# Altium footprint library PcbLib1.PcbLib: 7 footprints
Each footprint in its own frame and in the unit in brackets; x right, y up, seen from the top. Pads: shape width x height; smd on the part's side, far side on the other; paste and mask are expansions set on the pad; w line width, h text height; cw(c..) or ccw(c..) is an arc to the next point about the centre after c.
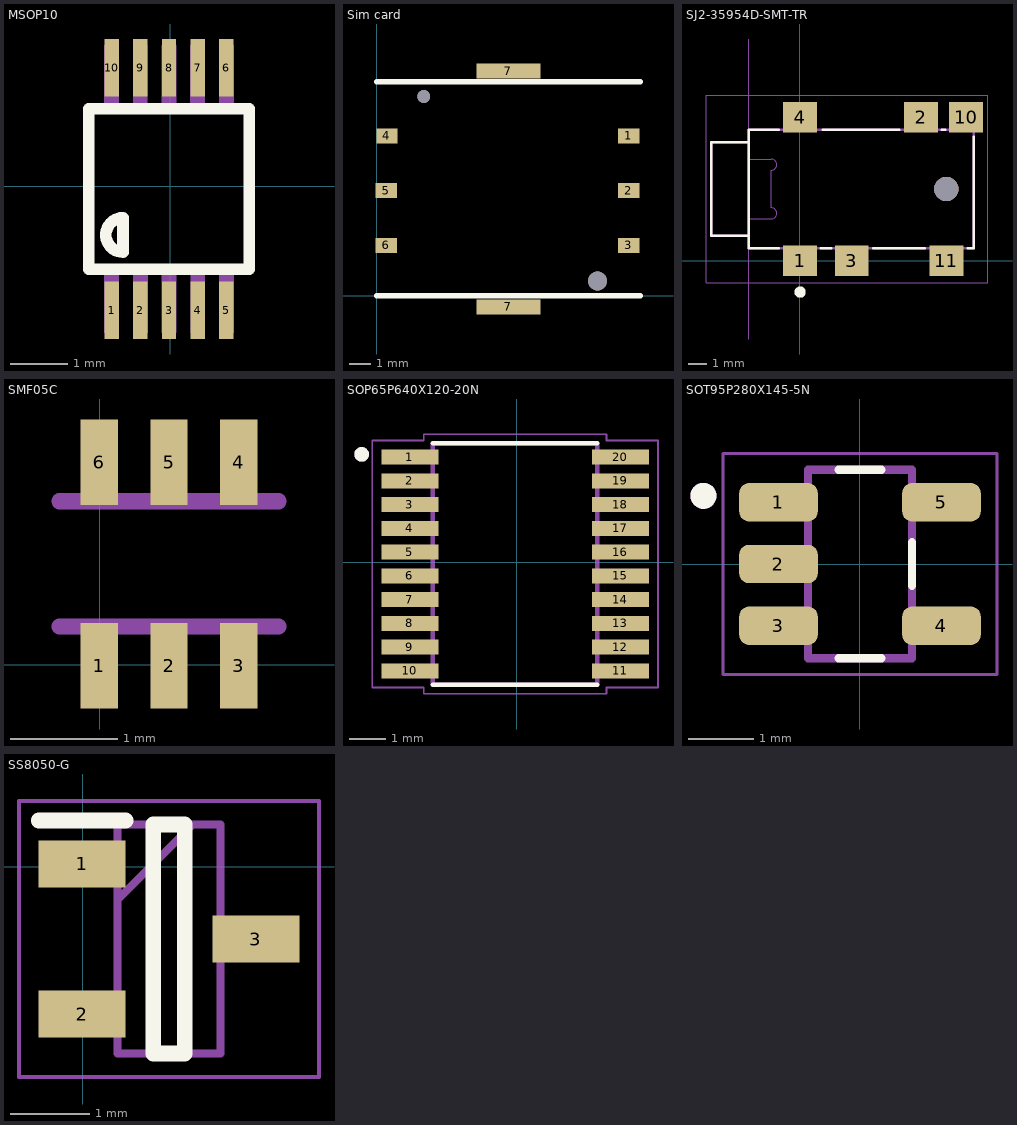
[diagram p0: the footprints below, top view; thin cyan lines are the x and y axes]

## MSOP10 [mm]
pads (10):
  rect 0.25x1 smd: 1(-1.025,-2.164) 2(-0.525,-2.164) 3(-0.025,-2.164) 4(0.475,-2.164) 5(0.975,-2.164) 6(0.975,2.062) 7(0.475,2.062) 8(-0.025,2.062) 9(-0.525,2.062) 10(-1.025,2.062)
Top Overlay:
  lines w0.203: -1.425,-1.451 1.375,-1.451 1.375,1.349 -1.425,1.349 -1.425,-1.451 ; -0.825,-1.151 cw(c-0.825,-0.851) -0.825,-0.551 -0.825,-1.151
Mechanical 13:
  region: -0.9,-2.551 -1.15,-2.551 -1.15,-1.551 -0.9,-1.551
  region: -0.4,-2.551 -0.65,-2.551 -0.65,-1.551 -0.4,-1.551
  region: 0.1,-2.551 -0.15,-2.551 -0.15,-1.551 0.1,-1.551
  region: 0.6,-2.551 0.35,-2.551 0.35,-1.551 0.6,-1.551
  region: 1.1,-2.551 0.85,-2.551 0.85,-1.551 1.1,-1.551
  region: 1.099,1.449 0.849,1.449 0.849,2.449 1.099,2.449
  region: 0.599,1.449 0.349,1.449 0.349,2.449 0.599,2.449
  region: 0.099,1.449 -0.151,1.449 -0.151,2.449 0.099,2.449
  region: -0.401,1.449 -0.651,1.449 -0.651,2.449 -0.401,2.449
  region: -0.901,1.449 -1.151,1.449 -1.151,2.449 -0.901,2.449
3D body "step_temp.STEP": height 1.11, standoff 0.01, extent -1.525,-2.501 1.475,2.399

## Sim card [mm]
pads (8):
  rect 1x0.7 smd: 1(11.757,7.476) 2(11.757,4.916) 3(11.757,2.356) 4(0.483,7.476) 5(0.457,4.916) 6(0.457,2.356)
  rect 3x0.7 smd: 7(6.15,-0.508) 7(6.15,10.49)
via 2.2,9.3 diameter 0.6 hole 0.6
via 10.3,0.7 diameter 0.9 hole 0.9
Top Overlay:
  lines w0.254: 0,0 12.3,0 ; 0,10 12.3,10
3D body: height 1, standoff 0, extent -0.013,0.127 12.281,9.881

## SJ2-35954D-SMT-TR [mm]
pads (7):
  rect 1.8x1.65 smd: 1(0.027,0.01) 2(6.477,7.66) 3(2.777,0.01) 4(0.027,7.66) 10(8.877,7.66) 11(7.827,0.01)
  round 1.3 hole 1.3 unplated: ""(7.827,3.835)
Top Overlay:
  circle w0.3: c0.027,-1.665 r0.15
  lines w0.127: -2.723,6.335 -4.723,6.335 -4.723,1.335 -2.723,1.335 ; -1.123,0.685 -2.723,0.685 -2.723,1.335 ; -1.123,6.985 -2.723,6.985 -2.723,1.335 ; 1.127,0.685 1.677,0.685 ; 1.227,6.985 5.327,6.985 ; 3.927,0.685 6.677,0.685 ; 7.577,6.985 7.777,6.985 ; 8.977,0.685 9.277,0.685 9.277,6.635
Mechanical 1:
  lines w0: -2.723,-4.165 -2.723,2.235 -1.523,2.235 ccw(c-1.523,2.535) -1.523,2.835 -1.523,4.835 ccw(c-1.523,5.135) -1.523,5.435 -2.723,5.435 -2.723,11.835
Mechanical 13:
  lines w0.127: -2.723,1.335 -4.723,1.335 -4.723,6.335 -2.723,6.335 ; -2.723,1.335 -2.723,6.335 ; -2.723,1.335 -2.723,0.685 9.277,0.685 9.277,6.985 -2.723,6.985 -2.723,6.335
Mechanical 15:
  lines w0.05: -4.973,-1.165 -4.973,8.835 10.027,8.835 10.027,-1.165 -4.973,-1.165
3D body: height 0.25, standoff 0, extent 2.515,8.661 2.515,8.661
3D body "CUI_DEVICES_SJ2-35954D-SMT-TR.step": height 4.41, standoff -0.59, extent -4.739,-0.274 9.261,8.026

## SMF05C [mm]
pads (6):
  rect 0.35x0.8 smd paste-1 mask+0: 1(-0.005,-0.01) 2(0.645,-0.01) 3(1.295,-0.01) 4(1.295,1.89) 5(0.645,1.89) 6(-0.005,1.89)
Top Paste:
  region: 0.145,1.516 -0.157,1.516 -0.157,2.265 0.145,2.265
  region: 0.795,1.515 0.495,1.515 0.495,2.265 0.795,2.265
  region: 1.445,1.515 1.145,1.515 1.145,2.265 1.445,2.265
  region: 1.445,-0.386 1.145,-0.386 1.145,0.365 1.445,0.365
  region: 0.795,-0.386 0.494,-0.386 0.494,0.365 0.795,0.365
  region: 0.145,-0.386 -0.156,-0.386 -0.156,0.365 0.145,0.365
Top Solder:
  region: 0.22,1.44 -0.231,1.44 -0.231,2.34 0.22,2.34
  region: 0.87,1.441 0.419,1.441 0.419,2.34 0.87,2.34
  region: 1.52,1.44 1.07,1.44 1.07,2.34 1.52,2.34
  region: 1.52,-0.462 1.07,-0.462 1.07,0.44 1.52,0.44
  region: 0.87,-0.461 0.419,-0.461 0.419,0.44 0.87,0.44
  region: 0.22,-0.461 -0.231,-0.461 -0.231,0.44 0.22,0.44
Mechanical 13:
  region: 0.145,1.566 -0.156,1.566 -0.156,2.14 0.145,2.14
  region: 0.795,1.566 0.494,1.566 0.494,2.14 0.795,2.14
  region: 1.445,1.566 1.145,1.566 1.145,2.14 1.445,2.14
  region: 1.445,-0.261 1.145,-0.261 1.145,0.315 1.445,0.315
  region: 0.145,-0.262 -0.157,-0.262 -0.157,0.315 0.145,0.315
  region: 0.795,-0.26 0.495,-0.26 0.495,0.315 0.795,0.315
  lines w0.152: -0.377,0.355 1.667,0.355 ; -0.377,1.525 1.667,1.525
3D body "SMF05C.STEP": height 1.08, standoff -0.02, extent -0.339,-0.11 1.661,1.99

## SOP65P640X120-20N [mm]
pads (20):
  rect 1.56x0.41 smd: 1(-2.931,2.874) 2(-2.931,2.224) 3(-2.931,1.574) 4(-2.931,0.924) 5(-2.931,0.274) 6(-2.931,-0.376) 7(-2.931,-1.026) 8(-2.931,-1.676) 9(-2.931,-2.326) 10(-2.931,-2.976) 11(2.829,-2.976) 12(2.829,-2.326) 13(2.829,-1.676) 14(2.829,-1.026) 15(2.829,-0.376) 16(2.829,0.274) 17(2.829,0.924) 18(2.829,1.574) 19(2.829,2.224) 20(2.829,2.874)
Top Overlay:
  circle w0.2: c-4.251,2.949 r0.1
  lines w0.127: -2.301,-3.351 2.199,-3.351 ; -2.301,3.249 2.199,3.249
Mechanical 13:
  circle w0.2: c-4.251,2.949 r0.1
  lines w0.127: -2.301,-3.351 2.199,-3.351 2.199,3.249 -2.301,3.249 -2.301,-3.351
Mechanical 15:
  lines w0.05: -3.961,-3.431 -2.551,-3.431 -2.551,-3.601 2.449,-3.601 2.449,-3.431 3.859,-3.431 3.859,3.329 2.449,3.329 2.449,3.499 -2.551,3.499 -2.551,3.329 -3.961,3.329 -3.961,-3.431
3D body "STM32F030F4P6--3DModel-STEP-56544.STEP": height 1.16, standoff -0.04, extent -3.276,-3.301 3.124,3.199

## SOT95P280X145-5N [mm]
pads (5):
  rrect50% 1.21x0.59 smd: 1(-1.255,0.95) 2(-1.255,0) 3(-1.255,-0.95) 4(1.255,-0.95) 5(1.255,0.95)
Top Overlay:
  circle w0.2: c-2.41,1.05 r0.1
  lines w0.127: -0.33,-1.45 0.33,-1.45 ; -0.33,1.45 0.33,1.45 ; 0.8,-0.335 0.8,0.335
Mechanical 13:
  circle w0.2: c-2.41,1.05 r0.1
  lines w0.127: -0.8,-1.45 0.8,-1.45 0.8,1.45 -0.8,1.45 -0.8,-1.45
Mechanical 15:
  lines w0.05: -2.11,-1.7 -2.11,1.7 2.11,1.7 2.11,-1.7 -2.11,-1.7
3D body "step_temp.STEP": height 1.45, standoff 0, extent -1.4,-1.45 1.4,1.45

## SS8050-G [mm]
pads (3):
  rect 1.1x0.6 smd: 1(-0.008,0.036) 2(-0.008,-1.864) 3(2.192,-0.914)
Top Overlay:
  lines w0.2: -0.558,0.586 0.542,0.586 ; 0.892,-2.364 1.292,-2.364 1.292,0.536 0.892,0.536 0.892,-2.364
Mechanical 13:
  lines w0.05: -0.808,-2.664 2.992,-2.664 2.992,0.836 -0.808,0.836 -0.808,-2.664
  lines w0.1: 0.442,-0.414 0.442,-2.364 1.742,-2.364 1.742,0.536 1.392,0.536 ; 0.442,-0.414 0.442,0.536 1.392,0.536 ; 0.442,-0.414 1.392,0.536
3D body "REF2933AIDBZT.STEP": height 1.09, standoff -0.03, extent -0.093,-2.375 2.277,0.545